# Altium footprint library TACTILE_SWITCH_TYPE1.PcbLib: 1 footprints
Each footprint in its own frame and in the unit in brackets; x right, y up, seen from the top. Pads: shape width x height; smd on the part's side, far side on the other; paste and mask are expansions set on the pad; w line width, h text height; cw(c..) or ccw(c..) is an arc to the next point about the centre after c.
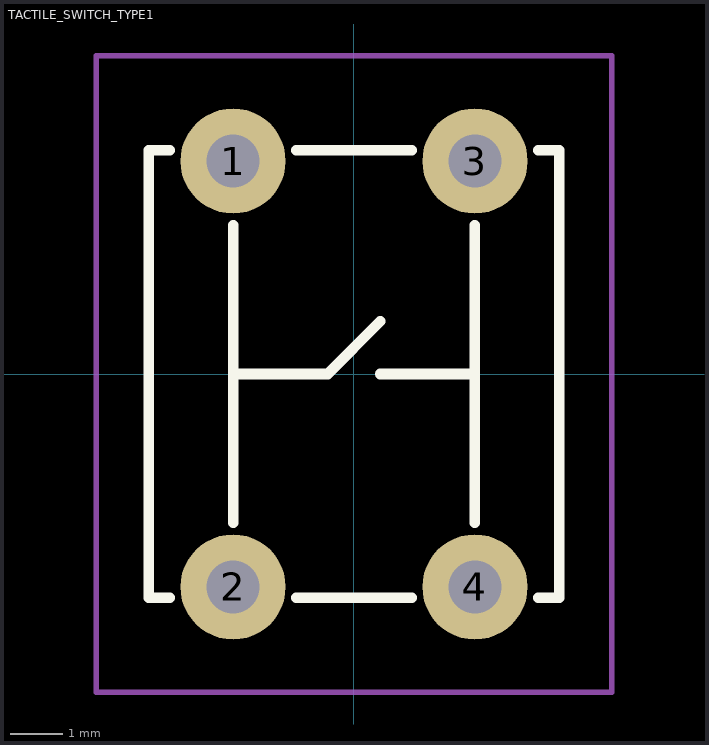
[diagram p0: the footprint, top view; thin cyan lines are the x and y axes]

## TACTILE_SWITCH_TYPE1 [mm]
pads (4):
  round 2 hole 1: 1(-2.3,4.05) 2(-2.3,-4.05) 3(2.3,4.05) 4(2.3,-4.05)
Top Overlay:
  lines w0.2: -3.5,-4.25 -3.9,-4.25 -3.9,4.25 -3.5,4.25 ; -2.3,-2.825 -2.3,2.825 ; -2.3,0 -0.5,0 0.5,1 ; -1.1,-4.25 1.1,-4.25 ; -1.1,4.25 1.1,4.25 ; 0.5,0 2.3,0 ; 2.3,-2.825 2.3,2.825 ; 3.5,-4.25 3.9,-4.25 3.9,4.25 3.5,4.25
Top Courtyard:
  lines w0.1: -4.9,-6.05 -2.3,-6.05 4.9,-6.05 4.9,6.05 -4.9,6.05 -4.9,-6.05
3D body "tact.STEP": height 5.7, standoff -3.05, extent -3.9,-4.25 3.9,4.25